# Altium integrated library Led.IntLib: 29 symbols
Pins are listed as number, name and electrical type; pins without a type are passive.

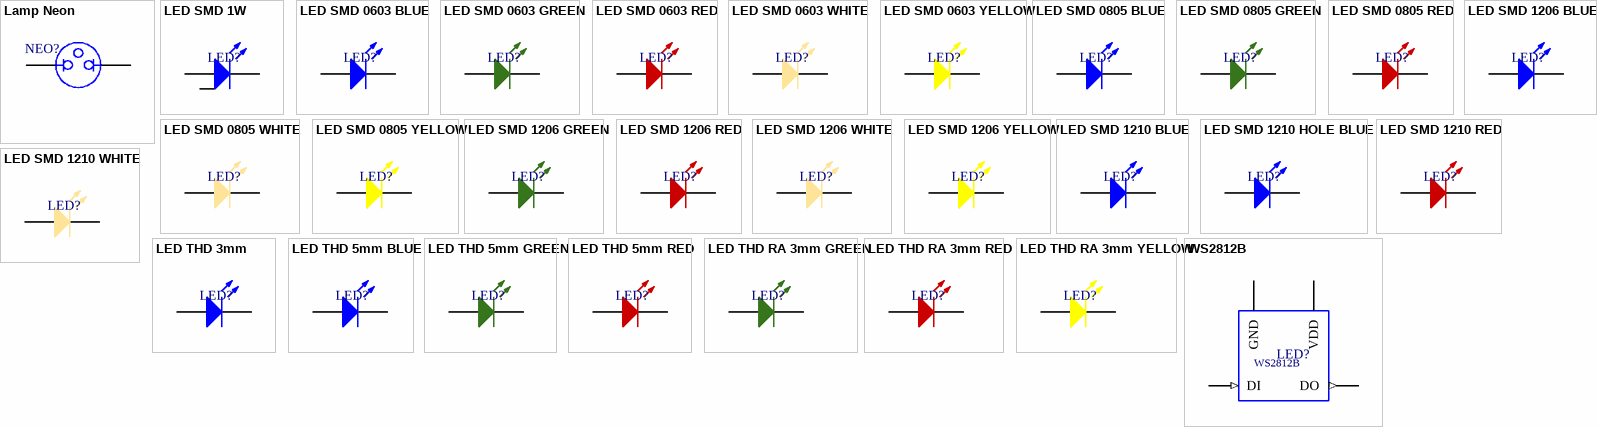
[diagram p0: symbols Lamp Neon to WS2812B]

## Lamp Neon
designator NEO?
Neon Lamp
footprint NEON
pins: 1, 2

## LED SMD 1W
designator LED?
footprint LED_1WATT_SMD (LED, 1WATT)
pins: 1 A, 2 K, 3

## LED SMD 0603 BLUE
designator LED?
footprint LED_0603_RED (LED SMD 0603, RED)
pins: 1 A, 2 K

## LED SMD 0603 GREEN
designator LED?
footprint LED_0603_GREEN (LED SMD 0603, GREEN)
pins: 1 A, 2 K

## LED SMD 0603 RED
designator LED?
footprint LED_0603_BLUE (LED SMD 0603, BLUE)
pins: 1 A, 2 K

## LED SMD 0603 WHITE
designator LED?
footprint LED_0603_WHITE (LED SMD 0603, WHITE)
pins: 1 A, 2 K

## LED SMD 0603 YELLOW
designator LED?
footprint LED_0603_YELLOW (LED SMD 0603, YELLOW)
pins: 1 A, 2 K

## LED SMD 0805 BLUE
designator LED?
footprint LED_0805_RED (LED SMD 0805, RED)
pins: 1 A, 2 K

## LED SMD 0805 GREEN
designator LED?
footprint LED_0805_GREEN (LED SMD 0805, GREEN)
pins: 1 A, 2 K

## LED SMD 0805 RED
designator LED?
footprint LED_0805_RED (LED SMD 0805, RED)
pins: 1 A, 2 K

## LED SMD 0805 WHITE
designator LED?
footprint LED_0805_WHITE (LED SMD 0805, WHITE)
pins: 1 A, 2 K

## LED SMD 0805 YELLOW
designator LED?
footprint LED_0805_YELLOW (Footprint not found)
pins: 1 A, 2 K

## LED SMD 1206 BLUE
designator LED?
footprint LED_1206_RED (LED, 1206, RED)
pins: 1 A, 2 K

## LED SMD 1206 GREEN
designator LED?
footprint LED_1206_GREEN (LED, 1206, GREEN)
pins: 1 A, 2 K

## LED SMD 1206 RED
designator LED?
footprint LED_1206_BLUE (LED, 1206, BLUE)
pins: 1 A, 2 K

## LED SMD 1206 WHITE
designator LED?
footprint LED_1206_WHITE (LED, 1206, WHITE)
pins: 1 A, 2 K

## LED SMD 1206 YELLOW
designator LED?
footprint LED_1206_YELLOW (LED, 1206, YELLOW)
pins: 1 A, 2 K

## LED SMD 1210 BLUE
designator LED?
footprint LED_1210
pins: 1 A, 2 K

## LED SMD 1210 HOLE BLUE
designator LED?
footprint LED_1210 HOLE
pins: 1 A, 2 K

## LED SMD 1210 RED
designator LED?
footprint LED_1210
pins: 1 A, 2 K

## LED SMD 1210 WHITE
designator LED?
footprint LED_1210
pins: 1 A, 2 K

## LED THD 3mm
designator LED?
footprint LED_3MM (LED THD 3MM)
pins: 1 A, 2 K

## LED THD 5mm BLUE
designator LED?
footprint LED_5MM_BLUE (LED THD 5MM BLUE)
pins: 1 A, 2 K

## LED THD 5mm GREEN
designator LED?
footprint LED_5MM_GREEN (LED THD 5MM GREEN)
pins: 1 A, 2 K

## LED THD 5mm RED
designator LED?
footprint LED_5MM_RED (LED THD 5MM RED)
pins: 1 A, 2 K

## LED THD RA 3mm GREEN
designator LED?
footprint LED_3MM_RA_GREEN (LED THD 3MM RIGHT ANGLE, GREEN)
pins: 1 A, 2 K

## LED THD RA 3mm RED
designator LED?
footprint LED_3MM_RA_RED (LED THD 3MM RIGHT ANGLE, RED)
pins: 1 A, 2 K

## LED THD RA 3mm YELLOW
designator LED?
footprint LED_3MM_RA_YELLOW (LED THD 3MM RIGHT ANGLE, YELLOW)
pins: 1 A, 2 K

## WS2812B
designator LED?
MP: WS2812B; MF: SparkFun Electronics; Availability: Unavailable; SnapEDA_Link: https://www.snapeda.com/parts/WS2812B/Worldsemi/view-part/1038297/?ref=snap; Price: None; Value: *; Package: None
footprint WS2812B
pins: 1-VDD VDD (power), 2-DOUT DO (out), 3-GND GND (power), 4-DIN DI (in)